# Altium footprint library Radio_Controller.PcbLib: 12 footprints
Each footprint in its own frame and in the unit in brackets; x right, y up, seen from the top. Pads: shape width x height; smd on the part's side, far side on the other; paste and mask are expansions set on the pad; w line width, h text height; cw(c..) or ccw(c..) is an arc to the next point about the centre after c.
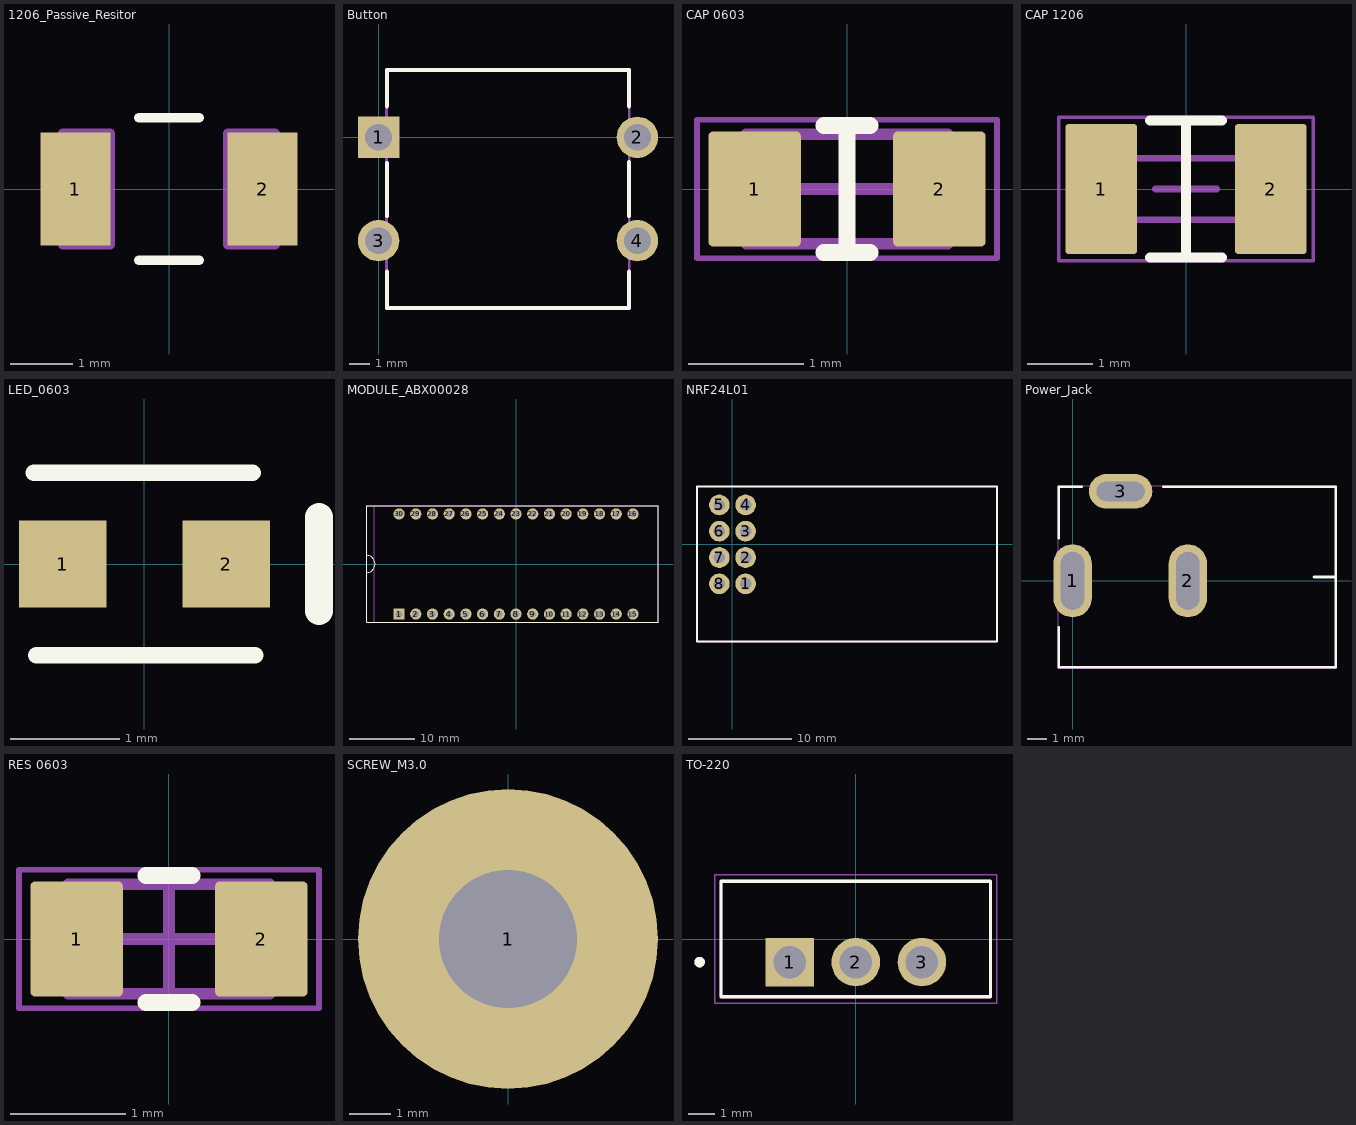
[diagram p0: the footprints below, top view; thin cyan lines are the x and y axes]

## 1206_Passive_Resitor [mil]
pads (2):
  rect 44x71 smd: 1(-59,0) 2(59,0)
Top Overlay:
  lines w6: -19,-44.88 19,-44.88 ; -19,44.88 19,44.88
Mechanical 4:
  lines w6: -67,-35 -37,-35 ; -67,-35 -67,35 ; -67,-35 -37,-35 ; -67,-35 -67,35 ; -67,35 -37,35 ; -67,35 -37,35 ; -37,-35 -37,35 ; -37,-35 -37,35 ; 37,-35 37,35 ; 37,-35 67,-35 ; 37,-35 37,35 ; 37,-35 67,-35 ; 37,35 67,35 ; 37,35 67,35 ; 67,-35 67,35 ; 67,-35 67,35
3D body "Res_1206.STEP": height 25.59, standoff 0, extent -61.02,-30.51 61.03,30.52

## Button [mm]
pads (4):
  rect 2x2 hole 1.3: 1(0,0)
  round 2 hole 1.3: 2(12.5,0) 3(0,-5) 4(12.5,-5)
Top Overlay:
  lines w0.2: 0.4,-6.5 0.4,-8.25 12.1,-8.25 12.1,-6.5 ; 0.4,-3.8 0.4,-1.25 ; 0.4,1.5 0.4,3.25 12.1,3.25 12.1,1.5 ; 12.1,-3.8 12.1,-1.2
Mechanical 15:
  lines w0.1: 0.4,-8.25 12.1,-8.25 12.1,3.25 0.4,3.25 0.4,-8.25
Mechanical 20:
  lines w0.05: 0.35,3.3 0.35,-8.3 12.15,-8.3 12.15,3.3
  lines w0.1: 0.35,3.3 12.15,3.3

## CAP 0603 [mm] "Chip Resistor, 2-Leads, Body 1.60x0.80mm"
height 0.45
pads (2):
  rrect10% 0.8x1 smd: 1(-0.8,0) 2(0.8,0)
Top Overlay:
  lines w0.15: -0.2,-0.55 0.2,-0.55 ; -0.2,0.55 0.2,0.55 ; 0,-0.55 0,0.55
Mechanical 13:
  lines w0.1: -0.875,-0.475 -0.875,0.475 0.875,0.475 0.875,-0.475 -0.875,-0.475
Mechanical 15:
  lines w0.05: -1.3,-0.6 -1.3,0.6 1.3,0.6 1.3,-0.6 -1.3,-0.6
  lines w0.1: -0.475,0 0.475,0 ; 0,-0.475 0,0.475
3D body "0603 resistor.STEP": height 0.45, standoff 0, extent -0.8,-0.4 0.8,0.4

## CAP 1206 [mm] "Chip Resistor, 2-Leads, Body 1.60x0.80mm"
height 0.45
pads (2):
  rrect10% 1.1x2 smd: 1(-1.3,0) 2(1.3,0)
Top Overlay:
  lines w0.15: -0.55,-1.05 0.55,-1.05 ; -0.55,1.05 0.55,1.05 ; 0,-1.05 0,1
Mechanical 13:
  lines w0.1: -0.875,-0.475 -0.875,0.475 0.875,0.475 0.875,-0.475 -0.875,-0.475
Mechanical 15:
  lines w0.05: -1.95,-1.1 -1.95,1.1 1.95,1.1 1.95,-1.1 -1.95,-1.1
  lines w0.1: -0.475,0 0.475,0 ; 0,-0.475 0,0.475
Mechanical 20:
  lines w0.05: -1.95,-1.1 1.95,-1.1 1.95,1.1 -1.95,1.1 -1.95,-1.1
3D body "0603 resistor.STEP": height 0.45, standoff 0, extent -0.8,-0.4 0.8,0.4

## LED_0603 [mm]
pads (2):
  rect 0.8x0.8 smd: 1(-0.75,0) 2(0.75,0)
Top Overlay:
  lines w0.152: -1.016,0.838 0.991,0.838 ; -0.991,-0.838 1.016,-0.838
  lines w0.254: 1.6,-0.432 1.6,0.432
3D body "LED_0603.STEP": height 0.55, standoff 0, extent -0.837,-0.406 0.763,0.394

## MODULE_ABX00028 [mm]
pads (30):
  rect 1.7x1.7 / inner round 1.7 / far side rect 1.7x1.7 hole 1.016: 1(-17.78,-7.62)
  round 1.7 hole 1.016: 2(-15.24,-7.62) 3(-12.7,-7.62) 4(-10.16,-7.62) 5(-7.62,-7.62) 6(-5.08,-7.62) 7(-2.54,-7.62) 8(0,-7.62) 9(2.54,-7.62) 10(5.08,-7.62) 11(7.62,-7.62) 12(10.16,-7.62) 13(12.7,-7.62) 14(15.24,-7.62) 15(17.78,-7.62) 16(17.78,7.62) 17(15.24,7.62) 18(12.7,7.62) 19(10.16,7.62) 20(7.62,7.62) 21(5.08,7.62) 22(2.54,7.62) 23(0,7.62) 24(-2.54,7.62) 25(-5.08,7.62) 26(-7.62,7.62) 27(-10.16,7.62) 28(-12.7,7.62) 29(-15.24,7.62) 30(-17.78,7.62)
Top Overlay:
  lines w0.127: -22.733,-1.295 ccw(c-22.733,0) -22.733,1.295 ; -22.733,-8.89 21.59,-8.89 21.59,8.89 -22.733,8.89 -22.733,-8.89
Mechanical 13:
  lines w0.127: -21.59,-8.89 21.59,-8.89 21.59,8.89 -21.59,8.89 -21.59,-8.89
Mechanical 15:
  lines w0.05: -22.733,-8.89 -22.733,8.89 21.59,8.89 21.59,-8.89 -22.733,-8.89
3D body "step_temp.STEP": height 6, standoff -6, extent -22.74,-8.89 21.59,8.89

## NRF24L01 [mm]
pads (8):
  round 2 hole 1.1: 1(1.27,-3.81) 2(1.27,-1.27) 3(1.27,1.27) 4(1.27,3.81) 5(-1.27,3.81) 6(-1.27,1.27) 7(-1.27,-1.27) 8(-1.27,-3.81)
Top Overlay:
  lines w0.2: -3.429,-9.398 25.571,-9.398 25.571,5.602 -3.429,5.602 -3.429,-9.398
Mechanical 15:
  lines w0.05: -3.429,-9.398 25.527,-9.398 25.527,5.602 -3.429,5.602 -3.429,-9.398
Mechanical 20:
  lines w0.05: -3.429,-9.398 25.527,-9.398 25.527,5.602 -3.429,5.602 -3.429,-9.398

## PCBComponent_1 [mm]

## Power_Jack [mm]
pads (3):
  oval 2x3.8 hole 1.2 slot 3 at 90 deg: 1(0,0) 2(6,0)
  oval 3.3x1.8 hole 1 slot 2.5 at 0 deg: 3(2.5,4.65)
Top Overlay:
  lines w0.127: -0.723,-2.413 -0.723,-4.5 13.677,-4.5 13.677,4.9 4.727,4.9 ; -0.723,2.21 -0.723,4.9 0.483,4.9
  lines w0.15: 12.55,0.2 13.677,0.2
  lines w0.254: 5.969,0 5.977,0
Mechanical 20:
  lines w0.05: -0.75,-4.55 -0.75,4.95 13.7,4.95 13.7,-4.55 -0.75,-4.55
3D body "Power_JackPJ-102A.step": height 11.49, standoff -3.02, extent -0.762,-4.446 13.638,4.954

## RES 0603 [mm] "Chip Resistor, 2-Leads, Body 1.60x0.80mm"
height 0.45
pads (2):
  rrect10% 0.8x1 smd: 1(-0.8,0) 2(0.8,0)
Top Overlay:
  lines w0.15: -0.2,-0.55 0.2,-0.55 ; -0.2,0.55 0.2,0.55
Top Courtyard:
  lines w0.05: -1.3,-0.6 -1.3,0.6 1.3,0.6 1.3,-0.6 -1.3,-0.6
Mechanical 13:
  lines w0.1: -0.875,-0.475 -0.875,0.475 0.875,0.475 0.875,-0.475 -0.875,-0.475
Mechanical 15:
  lines w0.1: -0.475,0 0.475,0 ; 0,-0.475 0,0.475
Mechanical 20:
  lines w0.05: -1.3,-0.6 -1.3,0.6 1.3,0.6 1.3,-0.6 -1.3,-0.6
3D body "0603 resistor.STEP": height 0.45, standoff 0, extent -0.8,-0.4 0.8,0.4

## SCREW_M3.0 [mm] "M3 Screw Close FIt"
pads (1):
  round 7.2 hole 3.301: 1(0,0)

## TO-220 [mil] "TO254P1035X444X2115-3N)"
height 833.07
pads (3):
  rect 73.5x73.5 / inner round 73.5 / far side rect 73.5x73.5 hole 49: 1(-100,-35)
  round 73.5 hole 49: 2(0,-35) 3(100,-35)
Top Overlay:
  circle w7.87: c-236.22,-35 r3.94
  lines w5: -203.75,-87.5 -203.75,87.5 203.75,87.5 203.75,-87.5 -203.75,-87.5
Mechanical 13:
  circle w7.87: c-236.22,-35 r3.94
  lines w5: -203.75,-87.5 -203.75,87.5 203.75,87.5 203.75,-87.5 -203.75,-87.5
Mechanical 15:
  lines w1.97: -213.59,-97.34 -213.59,97.34 213.59,97.34 213.59,-97.34 -213.59,-97.34